# Altium footprint library PJ-324M.PcbLib: 2 footprints
Each footprint in its own frame and in the unit in brackets; x right, y up, seen from the top. Pads: shape width x height; smd on the part's side, far side on the other; paste and mask are expansions set on the pad; w line width, h text height; cw(c..) or ccw(c..) is an arc to the next point about the centre after c.
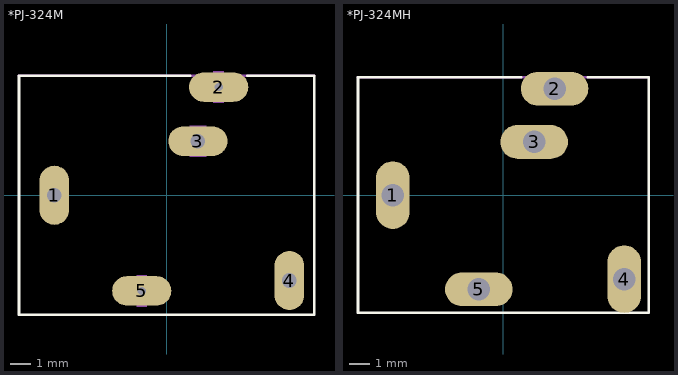
[diagram p0: the footprints below, top view; thin cyan lines are the x and y axes]

## *PJ-324M [mm]
pads (5):
  oval 1.422x2.845 hole 0.7: 1(-5.4,0) 4(5.9,-4.1)
  oval 2.845x1.422 hole 0.4: 2(2.5,5.2) 5(-1.2,-4.6)
  oval 2.845x1.422 hole 0.7: 3(1.5,2.6)
Top Overlay:
  lines w0.127: 1.125,5.75 -7.1,5.75 -7.1,-5.75 7.1,-5.75 7.1,5.75 3.875,5.75
Mechanical 1:
  region: 2.25,5.95 2.75,5.95 2.75,4.45 2.25,4.45
  region: -1.45,-3.85 -0.95,-3.85 -0.95,-5.35 -1.45,-5.35
  region: 5.5,-3.35 6.3,-3.35 6.3,-4.85 5.5,-4.85
  region: 1.1,3.35 1.9,3.35 1.9,1.85 1.1,1.85
  region: -5.8,0.75 -5,0.75 -5,-0.75 -5.8,-0.75
Mechanical 4:
  lines w0.127: -7.1,5.75 7.1,5.75 -7.1,5.75

## *PJ-324MH [mm]
pads (5):
  oval 1.65x3.3 hole 1.1: 1(-5.4,0) 4(5.9,-4.1)
  oval 3.3x1.65 hole 1.1: 2(2.5,5.2) 3(1.5,2.6) 5(-1.2,-4.6)
Top Overlay:
  lines w0.127: 0.875,5.75 -7.1,5.75 -7.1,-5.75 7.1,-5.75 7.1,5.75 4.125,5.75
Mechanical 4:
  lines w0.127: -7.1,5.75 7.1,5.75 -7.1,5.75